# Altium schematic symbol library kmilo17pet-NSC_MiscPower.SchLib: 1552 symbols (part 36 of 43)
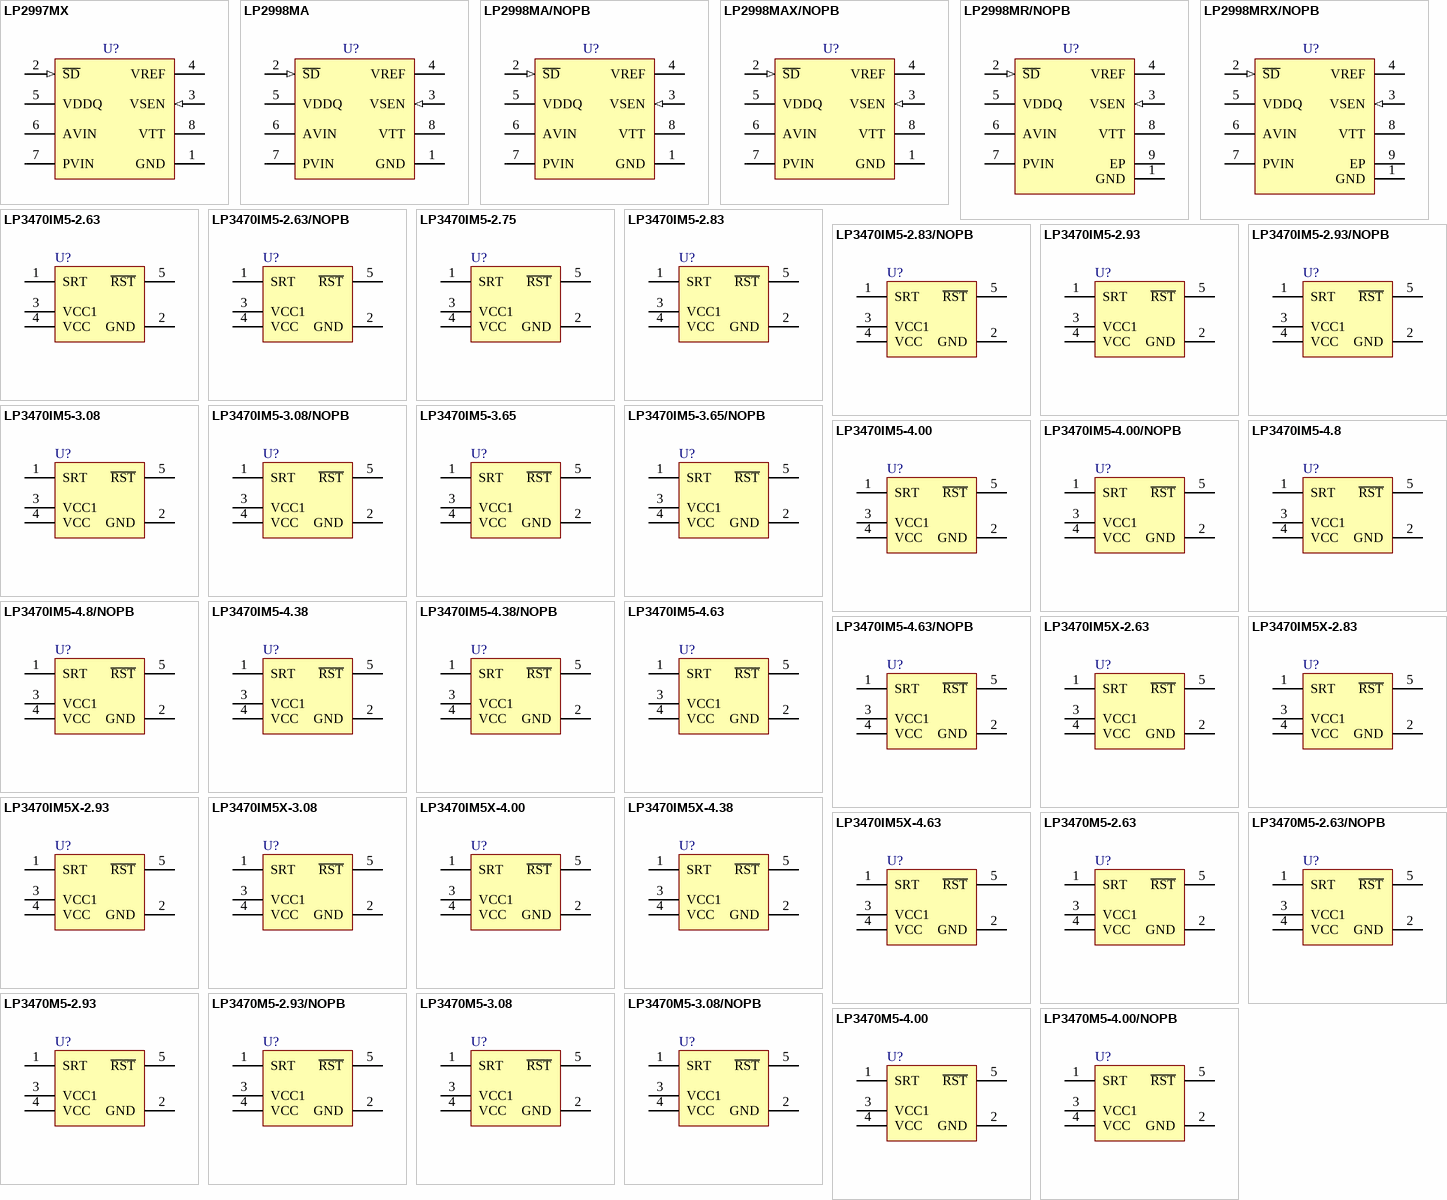
[diagram p92: symbols LP2997MX to LP3470M5-4.00/NOPB]

## LP3470IM5X-4.38
designator U?
Tiny Power On Reset Circuit, 5-pin SOT-23; PartNumber: LP3470IM5X-4.38; Manufacturer: National Semiconductor; PackageTopMarking: D30C*XTT; PowerWise: N; CompType: MiscPower; High-Reliability: Y; DatasheetVersion: Sep-2009; PackageVersion: revD, Aug-2008; PackageReference: MF05A; PackageDescription: Molded SOT-23, .115 x .063 x .040 in Body, 5 Lead, .0375 in Pitch; RoHS: N; PinCount: 5; ComponentLink1Description: Manufacturer URL; ComponentLink1URL: http://www.national.com/; ComponentLink2Description: LP3470 Datasheet; ComponentLink2URL: http://www.national.com/ds/LP/LP3470.pdf; ComponentLink3Description: LP3470 Web Page; ComponentLink3URL: http://www.national.com/pf/LP/LP3470.html; ComponentLink4Description: MF05A Package Page; ComponentLink4URL: http://www.national.com/packaging/folders/mf05a.html
footprint MF05A_N (SOT23, 5-Leads, Body 2.9x1.6mm, Pitch 0.95mm, Lead Span 2.8mm, IPC Medium Density)
footprint MF05A_L (SOT23, 5-Leads, Body 2.9x1.6mm, Pitch 0.95mm, Lead Span 2.8mm, IPC High Density)
footprint MF05A_M (SOT23, 5-Leads, Body 2.9x1.6mm, Pitch 0.95mm, Lead Span 2.8mm, IPC Low Density)
pins: 1 SRT, 2 GND (power), 3 VCC1 (power), 4 VCC (power), 5 ~{RST} (oc)

## LP3470IM5X-4.63
designator U?
Tiny Power On Reset Circuit, 5-pin SOT-23; PartNumber: LP3470IM5X-4.63; Manufacturer: National Semiconductor; PackageTopMarking: D31C*XTT; PowerWise: N; CompType: MiscPower; High-Reliability: Y; DatasheetVersion: Sep-2009; PackageVersion: revD, Aug-2008; PackageReference: MF05A; PackageDescription: Molded SOT-23, .115 x .063 x .040 in Body, 5 Lead, .0375 in Pitch; RoHS: N; PinCount: 5; ComponentLink1Description: Manufacturer URL; ComponentLink1URL: http://www.national.com/; ComponentLink2Description: LP3470 Datasheet; ComponentLink2URL: http://www.national.com/ds/LP/LP3470.pdf; ComponentLink3Description: LP3470 Web Page; ComponentLink3URL: http://www.national.com/pf/LP/LP3470.html; ComponentLink4Description: MF05A Package Page; ComponentLink4URL: http://www.national.com/packaging/folders/mf05a.html
footprint MF05A_N (SOT23, 5-Leads, Body 2.9x1.6mm, Pitch 0.95mm, Lead Span 2.8mm, IPC Medium Density)
footprint MF05A_L (SOT23, 5-Leads, Body 2.9x1.6mm, Pitch 0.95mm, Lead Span 2.8mm, IPC High Density)
footprint MF05A_M (SOT23, 5-Leads, Body 2.9x1.6mm, Pitch 0.95mm, Lead Span 2.8mm, IPC Low Density)
pins: 1 SRT, 2 GND (power), 3 VCC1 (power), 4 VCC (power), 5 ~{RST} (oc)

## LP3470M5-2.63
designator U?
Tiny Power On Reset Circuit, 5-pin SOT-23; PartNumber: LP3470M5-2.63; Manufacturer: National Semiconductor; PackageTopMarking: D25B*XTT; PowerWise: N; CompType: MiscPower; High-Reliability: Y; DatasheetVersion: Sep-2009; PackageVersion: revD, Aug-2008; PackageReference: MF05A; PackageDescription: Molded SOT-23, .115 x .063 x .040 in Body, 5 Lead, .0375 in Pitch; RoHS: N; PinCount: 5; ComponentLink1Description: Manufacturer URL; ComponentLink1URL: http://www.national.com/; ComponentLink2Description: LP3470 Datasheet; ComponentLink2URL: http://www.national.com/ds/LP/LP3470.pdf; ComponentLink3Description: LP3470 Web Page; ComponentLink3URL: http://www.national.com/pf/LP/LP3470.html; ComponentLink4Description: MF05A Package Page; ComponentLink4URL: http://www.national.com/packaging/folders/mf05a.html
footprint MF05A_N (SOT23, 5-Leads, Body 2.9x1.6mm, Pitch 0.95mm, Lead Span 2.8mm, IPC Medium Density)
footprint MF05A_L (SOT23, 5-Leads, Body 2.9x1.6mm, Pitch 0.95mm, Lead Span 2.8mm, IPC High Density)
footprint MF05A_M (SOT23, 5-Leads, Body 2.9x1.6mm, Pitch 0.95mm, Lead Span 2.8mm, IPC Low Density)
pins: 1 SRT, 2 GND (power), 3 VCC1 (power), 4 VCC (power), 5 ~{RST} (oc)

## LP3470M5-2.63/NOPB
designator U?
Tiny Power On Reset Circuit, 5-pin SOT-23, Pb-Free; PartNumber: LP3470M5-2.63/NOPB; Manufacturer: National Semiconductor; PackageTopMarking: D25B*XTT; PowerWise: N; CompType: MiscPower; High-Reliability: Y; DatasheetVersion: Sep-2009; PackageVersion: revD, Aug-2008; PackageReference: MF05A; PackageDescription: Molded SOT-23, .115 x .063 x .040 in Body, 5 Lead, .0375 in Pitch; RoHS: Y; PinCount: 5; ComponentLink1Description: Manufacturer URL; ComponentLink1URL: http://www.national.com/; ComponentLink2Description: LP3470 Datasheet; ComponentLink2URL: http://www.national.com/ds/LP/LP3470.pdf; ComponentLink3Description: LP3470 Web Page; ComponentLink3URL: http://www.national.com/pf/LP/LP3470.html; ComponentLink4Description: MF05A Package Page; ComponentLink4URL: http://www.national.com/packaging/folders/mf05a.html
footprint MF05A_N (SOT23, 5-Leads, Body 2.9x1.6mm, Pitch 0.95mm, Lead Span 2.8mm, IPC Medium Density)
footprint MF05A_L (SOT23, 5-Leads, Body 2.9x1.6mm, Pitch 0.95mm, Lead Span 2.8mm, IPC High Density)
footprint MF05A_M (SOT23, 5-Leads, Body 2.9x1.6mm, Pitch 0.95mm, Lead Span 2.8mm, IPC Low Density)
pins: 1 SRT, 2 GND (power), 3 VCC1 (power), 4 VCC (power), 5 ~{RST} (oc)

## LP3470M5-2.93
designator U?
Tiny Power On Reset Circuit, 5-pin SOT-23; PartNumber: LP3470M5-2.93; Manufacturer: National Semiconductor; PackageTopMarking: D26B*XTT; PowerWise: N; CompType: MiscPower; High-Reliability: Y; DatasheetVersion: Sep-2009; PackageVersion: revD, Aug-2008; PackageReference: MF05A; PackageDescription: Molded SOT-23, .115 x .063 x .040 in Body, 5 Lead, .0375 in Pitch; RoHS: N; PinCount: 5; ComponentLink1Description: Manufacturer URL; ComponentLink1URL: http://www.national.com/; ComponentLink2Description: LP3470 Datasheet; ComponentLink2URL: http://www.national.com/ds/LP/LP3470.pdf; ComponentLink3Description: LP3470 Web Page; ComponentLink3URL: http://www.national.com/pf/LP/LP3470.html; ComponentLink4Description: MF05A Package Page; ComponentLink4URL: http://www.national.com/packaging/folders/mf05a.html
footprint MF05A_N (SOT23, 5-Leads, Body 2.9x1.6mm, Pitch 0.95mm, Lead Span 2.8mm, IPC Medium Density)
footprint MF05A_L (SOT23, 5-Leads, Body 2.9x1.6mm, Pitch 0.95mm, Lead Span 2.8mm, IPC High Density)
footprint MF05A_M (SOT23, 5-Leads, Body 2.9x1.6mm, Pitch 0.95mm, Lead Span 2.8mm, IPC Low Density)
pins: 1 SRT, 2 GND (power), 3 VCC1 (power), 4 VCC (power), 5 ~{RST} (oc)

## LP3470M5-2.93/NOPB
designator U?
Tiny Power On Reset Circuit, 5-pin SOT-23, Pb-Free; PartNumber: LP3470M5-2.93/NOPB; Manufacturer: National Semiconductor; PackageTopMarking: D26B*XTT; PowerWise: N; CompType: MiscPower; High-Reliability: Y; DatasheetVersion: Sep-2009; PackageVersion: revD, Aug-2008; PackageReference: MF05A; PackageDescription: Molded SOT-23, .115 x .063 x .040 in Body, 5 Lead, .0375 in Pitch; RoHS: Y; PinCount: 5; ComponentLink1Description: Manufacturer URL; ComponentLink1URL: http://www.national.com/; ComponentLink2Description: LP3470 Datasheet; ComponentLink2URL: http://www.national.com/ds/LP/LP3470.pdf; ComponentLink3Description: LP3470 Web Page; ComponentLink3URL: http://www.national.com/pf/LP/LP3470.html; ComponentLink4Description: MF05A Package Page; ComponentLink4URL: http://www.national.com/packaging/folders/mf05a.html
footprint MF05A_N (SOT23, 5-Leads, Body 2.9x1.6mm, Pitch 0.95mm, Lead Span 2.8mm, IPC Medium Density)
footprint MF05A_L (SOT23, 5-Leads, Body 2.9x1.6mm, Pitch 0.95mm, Lead Span 2.8mm, IPC High Density)
footprint MF05A_M (SOT23, 5-Leads, Body 2.9x1.6mm, Pitch 0.95mm, Lead Span 2.8mm, IPC Low Density)
pins: 1 SRT, 2 GND (power), 3 VCC1 (power), 4 VCC (power), 5 ~{RST} (oc)

## LP3470M5-3.08
designator U?
Tiny Power On Reset Circuit, 5-pin SOT-23; PartNumber: LP3470M5-3.08; Manufacturer: National Semiconductor; PackageTopMarking: D28B*XTT; PowerWise: N; CompType: MiscPower; High-Reliability: Y; DatasheetVersion: Sep-2009; PackageVersion: revD, Aug-2008; PackageReference: MF05A; PackageDescription: Molded SOT-23, .115 x .063 x .040 in Body, 5 Lead, .0375 in Pitch; RoHS: N; PinCount: 5; ComponentLink1Description: Manufacturer URL; ComponentLink1URL: http://www.national.com/; ComponentLink2Description: LP3470 Datasheet; ComponentLink2URL: http://www.national.com/ds/LP/LP3470.pdf; ComponentLink3Description: LP3470 Web Page; ComponentLink3URL: http://www.national.com/pf/LP/LP3470.html; ComponentLink4Description: MF05A Package Page; ComponentLink4URL: http://www.national.com/packaging/folders/mf05a.html
footprint MF05A_N (SOT23, 5-Leads, Body 2.9x1.6mm, Pitch 0.95mm, Lead Span 2.8mm, IPC Medium Density)
footprint MF05A_L (SOT23, 5-Leads, Body 2.9x1.6mm, Pitch 0.95mm, Lead Span 2.8mm, IPC High Density)
footprint MF05A_M (SOT23, 5-Leads, Body 2.9x1.6mm, Pitch 0.95mm, Lead Span 2.8mm, IPC Low Density)
pins: 1 SRT, 2 GND (power), 3 VCC1 (power), 4 VCC (power), 5 ~{RST} (oc)

## LP3470M5-3.08/NOPB
designator U?
Tiny Power On Reset Circuit, 5-pin SOT-23, Pb-Free; PartNumber: LP3470M5-3.08/NOPB; Manufacturer: National Semiconductor; PackageTopMarking: D28B*XTT; PowerWise: N; CompType: MiscPower; High-Reliability: Y; DatasheetVersion: Sep-2009; PackageVersion: revD, Aug-2008; PackageReference: MF05A; PackageDescription: Molded SOT-23, .115 x .063 x .040 in Body, 5 Lead, .0375 in Pitch; RoHS: Y; PinCount: 5; ComponentLink1Description: Manufacturer URL; ComponentLink1URL: http://www.national.com/; ComponentLink2Description: LP3470 Datasheet; ComponentLink2URL: http://www.national.com/ds/LP/LP3470.pdf; ComponentLink3Description: LP3470 Web Page; ComponentLink3URL: http://www.national.com/pf/LP/LP3470.html; ComponentLink4Description: MF05A Package Page; ComponentLink4URL: http://www.national.com/packaging/folders/mf05a.html
footprint MF05A_N (SOT23, 5-Leads, Body 2.9x1.6mm, Pitch 0.95mm, Lead Span 2.8mm, IPC Medium Density)
footprint MF05A_L (SOT23, 5-Leads, Body 2.9x1.6mm, Pitch 0.95mm, Lead Span 2.8mm, IPC High Density)
footprint MF05A_M (SOT23, 5-Leads, Body 2.9x1.6mm, Pitch 0.95mm, Lead Span 2.8mm, IPC Low Density)
pins: 1 SRT, 2 GND (power), 3 VCC1 (power), 4 VCC (power), 5 ~{RST} (oc)

## LP3470M5-4.00
designator U?
Tiny Power On Reset Circuit, 5-pin SOT-23; PartNumber: LP3470M5-4.00; Manufacturer: National Semiconductor; PackageTopMarking: D29B*XTT; PowerWise: N; CompType: MiscPower; High-Reliability: Y; DatasheetVersion: Sep-2009; PackageVersion: revD, Aug-2008; PackageReference: MF05A; PackageDescription: Molded SOT-23, .115 x .063 x .040 in Body, 5 Lead, .0375 in Pitch; RoHS: N; PinCount: 5; ComponentLink1Description: Manufacturer URL; ComponentLink1URL: http://www.national.com/; ComponentLink2Description: LP3470 Datasheet; ComponentLink2URL: http://www.national.com/ds/LP/LP3470.pdf; ComponentLink3Description: LP3470 Web Page; ComponentLink3URL: http://www.national.com/pf/LP/LP3470.html; ComponentLink4Description: MF05A Package Page; ComponentLink4URL: http://www.national.com/packaging/folders/mf05a.html
footprint MF05A_N (SOT23, 5-Leads, Body 2.9x1.6mm, Pitch 0.95mm, Lead Span 2.8mm, IPC Medium Density)
footprint MF05A_L (SOT23, 5-Leads, Body 2.9x1.6mm, Pitch 0.95mm, Lead Span 2.8mm, IPC High Density)
footprint MF05A_M (SOT23, 5-Leads, Body 2.9x1.6mm, Pitch 0.95mm, Lead Span 2.8mm, IPC Low Density)
pins: 1 SRT, 2 GND (power), 3 VCC1 (power), 4 VCC (power), 5 ~{RST} (oc)

## LP3470M5-4.00/NOPB
designator U?
Tiny Power On Reset Circuit, 5-pin SOT-23, Pb-Free; PartNumber: LP3470M5-4.00/NOPB; Manufacturer: National Semiconductor; PackageTopMarking: D29B*XTT; PowerWise: N; CompType: MiscPower; High-Reliability: Y; DatasheetVersion: Sep-2009; PackageVersion: revD, Aug-2008; PackageReference: MF05A; PackageDescription: Molded SOT-23, .115 x .063 x .040 in Body, 5 Lead, .0375 in Pitch; RoHS: Y; PinCount: 5; ComponentLink1Description: Manufacturer URL; ComponentLink1URL: http://www.national.com/; ComponentLink2Description: LP3470 Datasheet; ComponentLink2URL: http://www.national.com/ds/LP/LP3470.pdf; ComponentLink3Description: LP3470 Web Page; ComponentLink3URL: http://www.national.com/pf/LP/LP3470.html; ComponentLink4Description: MF05A Package Page; ComponentLink4URL: http://www.national.com/packaging/folders/mf05a.html
footprint MF05A_N (SOT23, 5-Leads, Body 2.9x1.6mm, Pitch 0.95mm, Lead Span 2.8mm, IPC Medium Density)
footprint MF05A_L (SOT23, 5-Leads, Body 2.9x1.6mm, Pitch 0.95mm, Lead Span 2.8mm, IPC High Density)
footprint MF05A_M (SOT23, 5-Leads, Body 2.9x1.6mm, Pitch 0.95mm, Lead Span 2.8mm, IPC Low Density)
pins: 1 SRT, 2 GND (power), 3 VCC1 (power), 4 VCC (power), 5 ~{RST} (oc)

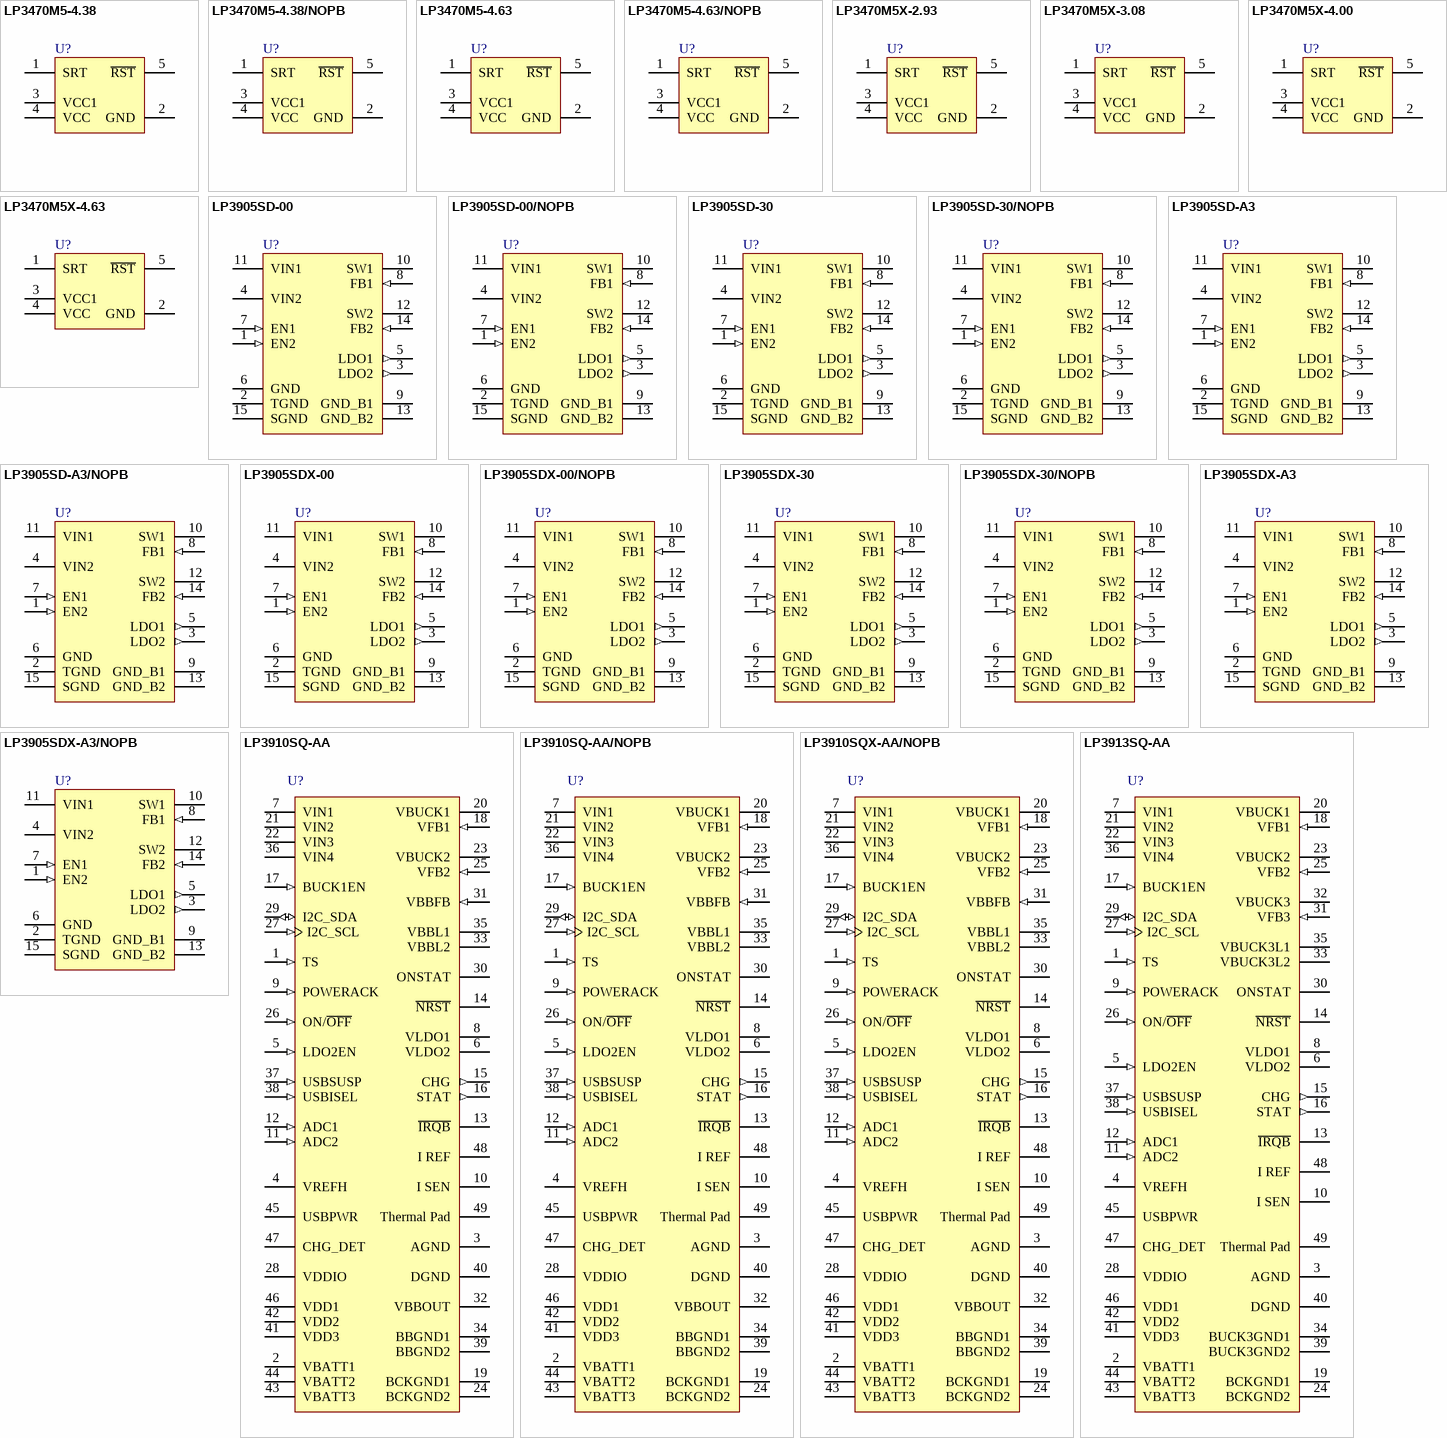
[diagram p40: symbols LP3470M5-4.38 to LP3913SQ-AA]

## LP3470M5-4.38
designator U?
Tiny Power On Reset Circuit, 5-pin SOT-23; PartNumber: LP3470M5-4.38; Manufacturer: National Semiconductor; PackageTopMarking: D30B*XTT; PowerWise: N; CompType: MiscPower; High-Reliability: Y; DatasheetVersion: Sep-2009; PackageVersion: revD, Aug-2008; PackageReference: MF05A; PackageDescription: Molded SOT-23, .115 x .063 x .040 in Body, 5 Lead, .0375 in Pitch; RoHS: N; PinCount: 5; ComponentLink1Description: Manufacturer URL; ComponentLink1URL: http://www.national.com/; ComponentLink2Description: LP3470 Datasheet; ComponentLink2URL: http://www.national.com/ds/LP/LP3470.pdf; ComponentLink3Description: LP3470 Web Page; ComponentLink3URL: http://www.national.com/pf/LP/LP3470.html; ComponentLink4Description: MF05A Package Page; ComponentLink4URL: http://www.national.com/packaging/folders/mf05a.html
footprint MF05A_N (SOT23, 5-Leads, Body 2.9x1.6mm, Pitch 0.95mm, Lead Span 2.8mm, IPC Medium Density)
footprint MF05A_L (SOT23, 5-Leads, Body 2.9x1.6mm, Pitch 0.95mm, Lead Span 2.8mm, IPC High Density)
footprint MF05A_M (SOT23, 5-Leads, Body 2.9x1.6mm, Pitch 0.95mm, Lead Span 2.8mm, IPC Low Density)
pins: 1 SRT, 2 GND (power), 3 VCC1 (power), 4 VCC (power), 5 ~{RST} (oc)

## LP3470M5-4.38/NOPB
designator U?
Tiny Power On Reset Circuit, 5-pin SOT-23, Pb-Free; PartNumber: LP3470M5-4.38/NOPB; Manufacturer: National Semiconductor; PackageTopMarking: D30B*XTT; PowerWise: N; CompType: MiscPower; High-Reliability: Y; DatasheetVersion: Sep-2009; PackageVersion: revD, Aug-2008; PackageReference: MF05A; PackageDescription: Molded SOT-23, .115 x .063 x .040 in Body, 5 Lead, .0375 in Pitch; RoHS: Y; PinCount: 5; ComponentLink1Description: Manufacturer URL; ComponentLink1URL: http://www.national.com/; ComponentLink2Description: LP3470 Datasheet; ComponentLink2URL: http://www.national.com/ds/LP/LP3470.pdf; ComponentLink3Description: LP3470 Web Page; ComponentLink3URL: http://www.national.com/pf/LP/LP3470.html; ComponentLink4Description: MF05A Package Page; ComponentLink4URL: http://www.national.com/packaging/folders/mf05a.html
footprint MF05A_N (SOT23, 5-Leads, Body 2.9x1.6mm, Pitch 0.95mm, Lead Span 2.8mm, IPC Medium Density)
footprint MF05A_L (SOT23, 5-Leads, Body 2.9x1.6mm, Pitch 0.95mm, Lead Span 2.8mm, IPC High Density)
footprint MF05A_M (SOT23, 5-Leads, Body 2.9x1.6mm, Pitch 0.95mm, Lead Span 2.8mm, IPC Low Density)
pins: 1 SRT, 2 GND (power), 3 VCC1 (power), 4 VCC (power), 5 ~{RST} (oc)

## LP3470M5-4.63
designator U?
Tiny Power On Reset Circuit, 5-pin SOT-23; PartNumber: LP3470M5-4.63; Manufacturer: National Semiconductor; PackageTopMarking: D31B*XTT; PowerWise: N; CompType: MiscPower; High-Reliability: Y; DatasheetVersion: Sep-2009; PackageVersion: revD, Aug-2008; PackageReference: MF05A; PackageDescription: Molded SOT-23, .115 x .063 x .040 in Body, 5 Lead, .0375 in Pitch; RoHS: N; PinCount: 5; ComponentLink1Description: Manufacturer URL; ComponentLink1URL: http://www.national.com/; ComponentLink2Description: LP3470 Datasheet; ComponentLink2URL: http://www.national.com/ds/LP/LP3470.pdf; ComponentLink3Description: LP3470 Web Page; ComponentLink3URL: http://www.national.com/pf/LP/LP3470.html; ComponentLink4Description: MF05A Package Page; ComponentLink4URL: http://www.national.com/packaging/folders/mf05a.html
footprint MF05A_N (SOT23, 5-Leads, Body 2.9x1.6mm, Pitch 0.95mm, Lead Span 2.8mm, IPC Medium Density)
footprint MF05A_L (SOT23, 5-Leads, Body 2.9x1.6mm, Pitch 0.95mm, Lead Span 2.8mm, IPC High Density)
footprint MF05A_M (SOT23, 5-Leads, Body 2.9x1.6mm, Pitch 0.95mm, Lead Span 2.8mm, IPC Low Density)
pins: 1 SRT, 2 GND (power), 3 VCC1 (power), 4 VCC (power), 5 ~{RST} (oc)

## LP3470M5-4.63/NOPB
designator U?
Tiny Power On Reset Circuit, 5-pin SOT-23, Pb-Free; PartNumber: LP3470M5-4.63/NOPB; Manufacturer: National Semiconductor; PackageTopMarking: D31B*XTT; PowerWise: N; CompType: MiscPower; High-Reliability: Y; DatasheetVersion: Sep-2009; PackageVersion: revD, Aug-2008; PackageReference: MF05A; PackageDescription: Molded SOT-23, .115 x .063 x .040 in Body, 5 Lead, .0375 in Pitch; RoHS: Y; PinCount: 5; ComponentLink1Description: Manufacturer URL; ComponentLink1URL: http://www.national.com/; ComponentLink2Description: LP3470 Datasheet; ComponentLink2URL: http://www.national.com/ds/LP/LP3470.pdf; ComponentLink3Description: LP3470 Web Page; ComponentLink3URL: http://www.national.com/pf/LP/LP3470.html; ComponentLink4Description: MF05A Package Page; ComponentLink4URL: http://www.national.com/packaging/folders/mf05a.html
footprint MF05A_N (SOT23, 5-Leads, Body 2.9x1.6mm, Pitch 0.95mm, Lead Span 2.8mm, IPC Medium Density)
footprint MF05A_L (SOT23, 5-Leads, Body 2.9x1.6mm, Pitch 0.95mm, Lead Span 2.8mm, IPC High Density)
footprint MF05A_M (SOT23, 5-Leads, Body 2.9x1.6mm, Pitch 0.95mm, Lead Span 2.8mm, IPC Low Density)
pins: 1 SRT, 2 GND (power), 3 VCC1 (power), 4 VCC (power), 5 ~{RST} (oc)

## LP3470M5X-2.93
designator U?
Tiny Power On Reset Circuit, 5-pin SOT-23; PartNumber: LP3470M5X-2.93; Manufacturer: National Semiconductor; PackageTopMarking: D26B*XTT; PowerWise: N; CompType: MiscPower; High-Reliability: Y; DatasheetVersion: Sep-2009; PackageVersion: revD, Aug-2008; PackageReference: MF05A; PackageDescription: Molded SOT-23, .115 x .063 x .040 in Body, 5 Lead, .0375 in Pitch; RoHS: N; PinCount: 5; ComponentLink1Description: Manufacturer URL; ComponentLink1URL: http://www.national.com/; ComponentLink2Description: LP3470 Datasheet; ComponentLink2URL: http://www.national.com/ds/LP/LP3470.pdf; ComponentLink3Description: LP3470 Web Page; ComponentLink3URL: http://www.national.com/pf/LP/LP3470.html; ComponentLink4Description: MF05A Package Page; ComponentLink4URL: http://www.national.com/packaging/folders/mf05a.html
footprint MF05A_N (SOT23, 5-Leads, Body 2.9x1.6mm, Pitch 0.95mm, Lead Span 2.8mm, IPC Medium Density)
footprint MF05A_L (SOT23, 5-Leads, Body 2.9x1.6mm, Pitch 0.95mm, Lead Span 2.8mm, IPC High Density)
footprint MF05A_M (SOT23, 5-Leads, Body 2.9x1.6mm, Pitch 0.95mm, Lead Span 2.8mm, IPC Low Density)
pins: 1 SRT, 2 GND (power), 3 VCC1 (power), 4 VCC (power), 5 ~{RST} (oc)

## LP3470M5X-3.08
designator U?
Tiny Power On Reset Circuit, 5-pin SOT-23; PartNumber: LP3470M5X-3.08; Manufacturer: National Semiconductor; PackageTopMarking: D28B*XTT; PowerWise: N; CompType: MiscPower; High-Reliability: Y; DatasheetVersion: Sep-2009; PackageVersion: revD, Aug-2008; PackageReference: MF05A; PackageDescription: Molded SOT-23, .115 x .063 x .040 in Body, 5 Lead, .0375 in Pitch; RoHS: N; PinCount: 5; ComponentLink1Description: Manufacturer URL; ComponentLink1URL: http://www.national.com/; ComponentLink2Description: LP3470 Datasheet; ComponentLink2URL: http://www.national.com/ds/LP/LP3470.pdf; ComponentLink3Description: LP3470 Web Page; ComponentLink3URL: http://www.national.com/pf/LP/LP3470.html; ComponentLink4Description: MF05A Package Page; ComponentLink4URL: http://www.national.com/packaging/folders/mf05a.html
footprint MF05A_N (SOT23, 5-Leads, Body 2.9x1.6mm, Pitch 0.95mm, Lead Span 2.8mm, IPC Medium Density)
footprint MF05A_L (SOT23, 5-Leads, Body 2.9x1.6mm, Pitch 0.95mm, Lead Span 2.8mm, IPC High Density)
footprint MF05A_M (SOT23, 5-Leads, Body 2.9x1.6mm, Pitch 0.95mm, Lead Span 2.8mm, IPC Low Density)
pins: 1 SRT, 2 GND (power), 3 VCC1 (power), 4 VCC (power), 5 ~{RST} (oc)

## LP3470M5X-4.00
designator U?
Tiny Power On Reset Circuit, 5-pin SOT-23; PartNumber: LP3470M5X-4.00; Manufacturer: National Semiconductor; PackageTopMarking: D29B*XTT; PowerWise: N; CompType: MiscPower; High-Reliability: Y; DatasheetVersion: Sep-2009; PackageVersion: revD, Aug-2008; PackageReference: MF05A; PackageDescription: Molded SOT-23, .115 x .063 x .040 in Body, 5 Lead, .0375 in Pitch; RoHS: N; PinCount: 5; ComponentLink1Description: Manufacturer URL; ComponentLink1URL: http://www.national.com/; ComponentLink2Description: LP3470 Datasheet; ComponentLink2URL: http://www.national.com/ds/LP/LP3470.pdf; ComponentLink3Description: LP3470 Web Page; ComponentLink3URL: http://www.national.com/pf/LP/LP3470.html; ComponentLink4Description: MF05A Package Page; ComponentLink4URL: http://www.national.com/packaging/folders/mf05a.html
footprint MF05A_N (SOT23, 5-Leads, Body 2.9x1.6mm, Pitch 0.95mm, Lead Span 2.8mm, IPC Medium Density)
footprint MF05A_L (SOT23, 5-Leads, Body 2.9x1.6mm, Pitch 0.95mm, Lead Span 2.8mm, IPC High Density)
footprint MF05A_M (SOT23, 5-Leads, Body 2.9x1.6mm, Pitch 0.95mm, Lead Span 2.8mm, IPC Low Density)
pins: 1 SRT, 2 GND (power), 3 VCC1 (power), 4 VCC (power), 5 ~{RST} (oc)

## LP3470M5X-4.63
designator U?
Tiny Power On Reset Circuit, 5-pin SOT-23; PartNumber: LP3470M5X-4.63; Manufacturer: National Semiconductor; PackageTopMarking: D31B*XTT; PowerWise: N; CompType: MiscPower; High-Reliability: Y; DatasheetVersion: Sep-2009; PackageVersion: revD, Aug-2008; PackageReference: MF05A; PackageDescription: Molded SOT-23, .115 x .063 x .040 in Body, 5 Lead, .0375 in Pitch; RoHS: N; PinCount: 5; ComponentLink1Description: Manufacturer URL; ComponentLink1URL: http://www.national.com/; ComponentLink2Description: LP3470 Datasheet; ComponentLink2URL: http://www.national.com/ds/LP/LP3470.pdf; ComponentLink3Description: LP3470 Web Page; ComponentLink3URL: http://www.national.com/pf/LP/LP3470.html; ComponentLink4Description: MF05A Package Page; ComponentLink4URL: http://www.national.com/packaging/folders/mf05a.html
footprint MF05A_N (SOT23, 5-Leads, Body 2.9x1.6mm, Pitch 0.95mm, Lead Span 2.8mm, IPC Medium Density)
footprint MF05A_L (SOT23, 5-Leads, Body 2.9x1.6mm, Pitch 0.95mm, Lead Span 2.8mm, IPC High Density)
footprint MF05A_M (SOT23, 5-Leads, Body 2.9x1.6mm, Pitch 0.95mm, Lead Span 2.8mm, IPC Low Density)
pins: 1 SRT, 2 GND (power), 3 VCC1 (power), 4 VCC (power), 5 ~{RST} (oc)

## LP3905SD-00
designator U?
Power Management Unit for Low Power Handheld Applications, 14-pin LLP; PartNumber: LP3905SD-00; Manufacturer: National Semiconductor; PackageTopMarking: NS*UZXYTT*3905-00; PowerWise: N; CompType: MiscPower; High-Reliability: Y; DatasheetVersion: Aug-2006; PackageVersion: revA, Jul-2004; PackageReference: SDA14B; PackageDescription: LLP, Plastic, Dual, 4 x 4 x 0.8mm Body, 14 Lead, 0.5mm Pitch, No Pullback; RoHS: N; PinCount: 14; ComponentLink1Description: Manufacturer URL; ComponentLink1URL: http://www.national.com/; ComponentLink2Description: LP3905 Datasheet; ComponentLink2URL: http://www.national.com/ds/LP/LP3905.pdf; ComponentLink3Description: LP3905 Web Page; ComponentLink3URL: http://www.national.com/pf/LP/LP3905.html; ComponentLink4Description: SDA14B Package Page; ComponentLink4URL: http://www.national.com/packaging/folders/sda14b.html
footprint SDA14B (SON, 14-Leads, Body 4x4mm, Pitch 0.5mm, NSC Recommended)
pins: 1 EN2 (in), 2 TGND (power), 3 LDO2 (out), 4 VIN2 (power), 5 LDO1 (out), 6 GND (power), 7 EN1 (in), 8 FB1 (in), 9 GND_B1 (power), 10 SW1 (power), 11 VIN1 (power), 12 SW2 (power), 13 GND_B2 (power), 14 FB2 (in), 15 SGND (power)

## LP3905SD-00/NOPB
designator U?
Power Management Unit for Low Power Handheld Applications, 14-pin LLP, Pb-Free; PartNumber: LP3905SD-00/NOPB; Manufacturer: National Semiconductor; PackageTopMarking: NS*UZXYTT*3905-00; PowerWise: N; CompType: MiscPower; High-Reliability: Y; DatasheetVersion: Aug-2006; PackageVersion: revA, Jul-2004; PackageReference: SDA14B; PackageDescription: LLP, Plastic, Dual, 4 x 4 x 0.8mm Body, 14 Lead, 0.5mm Pitch, No Pullback; RoHS: Y; PinCount: 14; ComponentLink1Description: Manufacturer URL; ComponentLink1URL: http://www.national.com/; ComponentLink2Description: LP3905 Datasheet; ComponentLink2URL: http://www.national.com/ds/LP/LP3905.pdf; ComponentLink3Description: LP3905 Web Page; ComponentLink3URL: http://www.national.com/pf/LP/LP3905.html; ComponentLink4Description: SDA14B Package Page; ComponentLink4URL: http://www.national.com/packaging/folders/sda14b.html
footprint SDA14B (SON, 14-Leads, Body 4x4mm, Pitch 0.5mm, NSC Recommended)
pins: 1 EN2 (in), 2 TGND (power), 3 LDO2 (out), 4 VIN2 (power), 5 LDO1 (out), 6 GND (power), 7 EN1 (in), 8 FB1 (in), 9 GND_B1 (power), 10 SW1 (power), 11 VIN1 (power), 12 SW2 (power), 13 GND_B2 (power), 14 FB2 (in), 15 SGND (power)

## LP3905SD-30
designator U?
Power Management Unit for Low Power Handheld Applications, 14-pin LLP; PartNumber: LP3905SD-30; Manufacturer: National Semiconductor; PackageTopMarking: NS*UZXYTT*3905-30; PowerWise: N; CompType: MiscPower; High-Reliability: Y; DatasheetVersion: Aug-2006; PackageVersion: revA, Jul-2004; PackageReference: SDA14B; PackageDescription: LLP, Plastic, Dual, 4 x 4 x 0.8mm Body, 14 Lead, 0.5mm Pitch, No Pullback; RoHS: N; PinCount: 14; ComponentLink1Description: Manufacturer URL; ComponentLink1URL: http://www.national.com/; ComponentLink2Description: LP3905 Datasheet; ComponentLink2URL: http://www.national.com/ds/LP/LP3905.pdf; ComponentLink3Description: LP3905 Web Page; ComponentLink3URL: http://www.national.com/pf/LP/LP3905.html; ComponentLink4Description: SDA14B Package Page; ComponentLink4URL: http://www.national.com/packaging/folders/sda14b.html
footprint SDA14B (SON, 14-Leads, Body 4x4mm, Pitch 0.5mm, NSC Recommended)
pins: 1 EN2 (in), 2 TGND (power), 3 LDO2 (out), 4 VIN2 (power), 5 LDO1 (out), 6 GND (power), 7 EN1 (in), 8 FB1 (in), 9 GND_B1 (power), 10 SW1 (power), 11 VIN1 (power), 12 SW2 (power), 13 GND_B2 (power), 14 FB2 (in), 15 SGND (power)

## LP3905SD-30/NOPB
designator U?
Power Management Unit for Low Power Handheld Applications, 14-pin LLP, Pb-Free; PartNumber: LP3905SD-30/NOPB; Manufacturer: National Semiconductor; PackageTopMarking: NS*UZXYTT*3905-30; PowerWise: N; CompType: MiscPower; High-Reliability: Y; DatasheetVersion: Aug-2006; PackageVersion: revA, Jul-2004; PackageReference: SDA14B; PackageDescription: LLP, Plastic, Dual, 4 x 4 x 0.8mm Body, 14 Lead, 0.5mm Pitch, No Pullback; RoHS: Y; PinCount: 14; ComponentLink1Description: Manufacturer URL; ComponentLink1URL: http://www.national.com/; ComponentLink2Description: LP3905 Datasheet; ComponentLink2URL: http://www.national.com/ds/LP/LP3905.pdf; ComponentLink3Description: LP3905 Web Page; ComponentLink3URL: http://www.national.com/pf/LP/LP3905.html; ComponentLink4Description: SDA14B Package Page; ComponentLink4URL: http://www.national.com/packaging/folders/sda14b.html
footprint SDA14B (SON, 14-Leads, Body 4x4mm, Pitch 0.5mm, NSC Recommended)
pins: 1 EN2 (in), 2 TGND (power), 3 LDO2 (out), 4 VIN2 (power), 5 LDO1 (out), 6 GND (power), 7 EN1 (in), 8 FB1 (in), 9 GND_B1 (power), 10 SW1 (power), 11 VIN1 (power), 12 SW2 (power), 13 GND_B2 (power), 14 FB2 (in), 15 SGND (power)

## LP3905SD-A3
designator U?
Power Management Unit for Low Power Handheld Applications, 14-pin LLP; PartNumber: LP3905SD-A3; Manufacturer: National Semiconductor; PackageTopMarking: NS*UZXYTT*3905-A3; PowerWise: N; CompType: MiscPower; High-Reliability: Y; DatasheetVersion: Aug-2006; PackageVersion: revA, Jul-2004; PackageReference: SDA14B; PackageDescription: LLP, Plastic, Dual, 4 x 4 x 0.8mm Body, 14 Lead, 0.5mm Pitch, No Pullback; RoHS: N; PinCount: 14; ComponentLink1Description: Manufacturer URL; ComponentLink1URL: http://www.national.com/; ComponentLink2Description: LP3905 Datasheet; ComponentLink2URL: http://www.national.com/ds/LP/LP3905.pdf; ComponentLink3Description: LP3905 Web Page; ComponentLink3URL: http://www.national.com/pf/LP/LP3905.html; ComponentLink4Description: SDA14B Package Page; ComponentLink4URL: http://www.national.com/packaging/folders/sda14b.html
footprint SDA14B (SON, 14-Leads, Body 4x4mm, Pitch 0.5mm, NSC Recommended)
pins: 1 EN2 (in), 2 TGND (power), 3 LDO2 (out), 4 VIN2 (power), 5 LDO1 (out), 6 GND (power), 7 EN1 (in), 8 FB1 (in), 9 GND_B1 (power), 10 SW1 (power), 11 VIN1 (power), 12 SW2 (power), 13 GND_B2 (power), 14 FB2 (in), 15 SGND (power)

## LP3905SD-A3/NOPB
designator U?
Power Management Unit for Low Power Handheld Applications, 14-pin LLP, Pb-Free; PartNumber: LP3905SD-A3/NOPB; Manufacturer: National Semiconductor; PackageTopMarking: NS*UZXYTT*3905-A3; PowerWise: N; CompType: MiscPower; High-Reliability: Y; DatasheetVersion: Aug-2006; PackageVersion: revA, Jul-2004; PackageReference: SDA14B; PackageDescription: LLP, Plastic, Dual, 4 x 4 x 0.8mm Body, 14 Lead, 0.5mm Pitch, No Pullback; RoHS: Y; PinCount: 14; ComponentLink1Description: Manufacturer URL; ComponentLink1URL: http://www.national.com/; ComponentLink2Description: LP3905 Datasheet; ComponentLink2URL: http://www.national.com/ds/LP/LP3905.pdf; ComponentLink3Description: LP3905 Web Page; ComponentLink3URL: http://www.national.com/pf/LP/LP3905.html; ComponentLink4Description: SDA14B Package Page; ComponentLink4URL: http://www.national.com/packaging/folders/sda14b.html
footprint SDA14B (SON, 14-Leads, Body 4x4mm, Pitch 0.5mm, NSC Recommended)
pins: 1 EN2 (in), 2 TGND (power), 3 LDO2 (out), 4 VIN2 (power), 5 LDO1 (out), 6 GND (power), 7 EN1 (in), 8 FB1 (in), 9 GND_B1 (power), 10 SW1 (power), 11 VIN1 (power), 12 SW2 (power), 13 GND_B2 (power), 14 FB2 (in), 15 SGND (power)

## LP3905SDX-00
designator U?
Power Management Unit for Low Power Handheld Applications, 14-pin LLP; PartNumber: LP3905SDX-00; Manufacturer: National Semiconductor; PackageTopMarking: NS*UZXYTT*3905-00; PowerWise: N; CompType: MiscPower; High-Reliability: Y; DatasheetVersion: Aug-2006; PackageVersion: revA, Jul-2004; PackageReference: SDA14B; PackageDescription: LLP, Plastic, Dual, 4 x 4 x 0.8mm Body, 14 Lead, 0.5mm Pitch, No Pullback; RoHS: N; PinCount: 14; ComponentLink1Description: Manufacturer URL; ComponentLink1URL: http://www.national.com/; ComponentLink2Description: LP3905 Datasheet; ComponentLink2URL: http://www.national.com/ds/LP/LP3905.pdf; ComponentLink3Description: LP3905 Web Page; ComponentLink3URL: http://www.national.com/pf/LP/LP3905.html; ComponentLink4Description: SDA14B Package Page; ComponentLink4URL: http://www.national.com/packaging/folders/sda14b.html
footprint SDA14B (SON, 14-Leads, Body 4x4mm, Pitch 0.5mm, NSC Recommended)
pins: 1 EN2 (in), 2 TGND (power), 3 LDO2 (out), 4 VIN2 (power), 5 LDO1 (out), 6 GND (power), 7 EN1 (in), 8 FB1 (in), 9 GND_B1 (power), 10 SW1 (power), 11 VIN1 (power), 12 SW2 (power), 13 GND_B2 (power), 14 FB2 (in), 15 SGND (power)

## LP3905SDX-00/NOPB
designator U?
Power Management Unit for Low Power Handheld Applications, 14-pin LLP, Pb-Free; PartNumber: LP3905SDX-00/NOPB; Manufacturer: National Semiconductor; PackageTopMarking: NS*UZXYTT*3905-00; PowerWise: N; CompType: MiscPower; High-Reliability: Y; DatasheetVersion: Aug-2006; PackageVersion: revA, Jul-2004; PackageReference: SDA14B; PackageDescription: LLP, Plastic, Dual, 4 x 4 x 0.8mm Body, 14 Lead, 0.5mm Pitch, No Pullback; RoHS: Y; PinCount: 14; ComponentLink1Description: Manufacturer URL; ComponentLink1URL: http://www.national.com/; ComponentLink2Description: LP3905 Datasheet; ComponentLink2URL: http://www.national.com/ds/LP/LP3905.pdf; ComponentLink3Description: LP3905 Web Page; ComponentLink3URL: http://www.national.com/pf/LP/LP3905.html; ComponentLink4Description: SDA14B Package Page; ComponentLink4URL: http://www.national.com/packaging/folders/sda14b.html
footprint SDA14B (SON, 14-Leads, Body 4x4mm, Pitch 0.5mm, NSC Recommended)
pins: 1 EN2 (in), 2 TGND (power), 3 LDO2 (out), 4 VIN2 (power), 5 LDO1 (out), 6 GND (power), 7 EN1 (in), 8 FB1 (in), 9 GND_B1 (power), 10 SW1 (power), 11 VIN1 (power), 12 SW2 (power), 13 GND_B2 (power), 14 FB2 (in), 15 SGND (power)

## LP3905SDX-30
designator U?
Power Management Unit for Low Power Handheld Applications, 14-pin LLP; PartNumber: LP3905SDX-30; Manufacturer: National Semiconductor; PackageTopMarking: NS*UZXYTT*3905-30; PowerWise: N; CompType: MiscPower; High-Reliability: Y; DatasheetVersion: Aug-2006; PackageVersion: revA, Jul-2004; PackageReference: SDA14B; PackageDescription: LLP, Plastic, Dual, 4 x 4 x 0.8mm Body, 14 Lead, 0.5mm Pitch, No Pullback; RoHS: N; PinCount: 14; ComponentLink1Description: Manufacturer URL; ComponentLink1URL: http://www.national.com/; ComponentLink2Description: LP3905 Datasheet; ComponentLink2URL: http://www.national.com/ds/LP/LP3905.pdf; ComponentLink3Description: LP3905 Web Page; ComponentLink3URL: http://www.national.com/pf/LP/LP3905.html; ComponentLink4Description: SDA14B Package Page; ComponentLink4URL: http://www.national.com/packaging/folders/sda14b.html
footprint SDA14B (SON, 14-Leads, Body 4x4mm, Pitch 0.5mm, NSC Recommended)
pins: 1 EN2 (in), 2 TGND (power), 3 LDO2 (out), 4 VIN2 (power), 5 LDO1 (out), 6 GND (power), 7 EN1 (in), 8 FB1 (in), 9 GND_B1 (power), 10 SW1 (power), 11 VIN1 (power), 12 SW2 (power), 13 GND_B2 (power), 14 FB2 (in), 15 SGND (power)

## LP3905SDX-30/NOPB
designator U?
Power Management Unit for Low Power Handheld Applications, 14-pin LLP, Pb-Free; PartNumber: LP3905SDX-30/NOPB; Manufacturer: National Semiconductor; PackageTopMarking: NS*UZXYTT*3905-30; PowerWise: N; CompType: MiscPower; High-Reliability: Y; DatasheetVersion: Aug-2006; PackageVersion: revA, Jul-2004; PackageReference: SDA14B; PackageDescription: LLP, Plastic, Dual, 4 x 4 x 0.8mm Body, 14 Lead, 0.5mm Pitch, No Pullback; RoHS: Y; PinCount: 14; ComponentLink1Description: Manufacturer URL; ComponentLink1URL: http://www.national.com/; ComponentLink2Description: LP3905 Datasheet; ComponentLink2URL: http://www.national.com/ds/LP/LP3905.pdf; ComponentLink3Description: LP3905 Web Page; ComponentLink3URL: http://www.national.com/pf/LP/LP3905.html; ComponentLink4Description: SDA14B Package Page; ComponentLink4URL: http://www.national.com/packaging/folders/sda14b.html
footprint SDA14B (SON, 14-Leads, Body 4x4mm, Pitch 0.5mm, NSC Recommended)
pins: 1 EN2 (in), 2 TGND (power), 3 LDO2 (out), 4 VIN2 (power), 5 LDO1 (out), 6 GND (power), 7 EN1 (in), 8 FB1 (in), 9 GND_B1 (power), 10 SW1 (power), 11 VIN1 (power), 12 SW2 (power), 13 GND_B2 (power), 14 FB2 (in), 15 SGND (power)

## LP3905SDX-A3
designator U?
Power Management Unit for Low Power Handheld Applications, 14-pin LLP; PartNumber: LP3905SDX-A3; Manufacturer: National Semiconductor; PackageTopMarking: NS*UZXYTT*3905-A3; PowerWise: N; CompType: MiscPower; High-Reliability: Y; DatasheetVersion: Aug-2006; PackageVersion: revA, Jul-2004; PackageReference: SDA14B; PackageDescription: LLP, Plastic, Dual, 4 x 4 x 0.8mm Body, 14 Lead, 0.5mm Pitch, No Pullback; RoHS: N; PinCount: 14; ComponentLink1Description: Manufacturer URL; ComponentLink1URL: http://www.national.com/; ComponentLink2Description: LP3905 Datasheet; ComponentLink2URL: http://www.national.com/ds/LP/LP3905.pdf; ComponentLink3Description: LP3905 Web Page; ComponentLink3URL: http://www.national.com/pf/LP/LP3905.html; ComponentLink4Description: SDA14B Package Page; ComponentLink4URL: http://www.national.com/packaging/folders/sda14b.html
footprint SDA14B (SON, 14-Leads, Body 4x4mm, Pitch 0.5mm, NSC Recommended)
pins: 1 EN2 (in), 2 TGND (power), 3 LDO2 (out), 4 VIN2 (power), 5 LDO1 (out), 6 GND (power), 7 EN1 (in), 8 FB1 (in), 9 GND_B1 (power), 10 SW1 (power), 11 VIN1 (power), 12 SW2 (power), 13 GND_B2 (power), 14 FB2 (in), 15 SGND (power)

## LP3905SDX-A3/NOPB
designator U?
Power Management Unit for Low Power Handheld Applications, 14-pin LLP, Pb-Free; PartNumber: LP3905SDX-A3/NOPB; Manufacturer: National Semiconductor; PackageTopMarking: NS*UZXYTT*3905-A3; PowerWise: N; CompType: MiscPower; High-Reliability: Y; DatasheetVersion: Aug-2006; PackageVersion: revA, Jul-2004; PackageReference: SDA14B; PackageDescription: LLP, Plastic, Dual, 4 x 4 x 0.8mm Body, 14 Lead, 0.5mm Pitch, No Pullback; RoHS: Y; PinCount: 14; ComponentLink1Description: Manufacturer URL; ComponentLink1URL: http://www.national.com/; ComponentLink2Description: LP3905 Datasheet; ComponentLink2URL: http://www.national.com/ds/LP/LP3905.pdf; ComponentLink3Description: LP3905 Web Page; ComponentLink3URL: http://www.national.com/pf/LP/LP3905.html; ComponentLink4Description: SDA14B Package Page; ComponentLink4URL: http://www.national.com/packaging/folders/sda14b.html
footprint SDA14B (SON, 14-Leads, Body 4x4mm, Pitch 0.5mm, NSC Recommended)
pins: 1 EN2 (in), 2 TGND (power), 3 LDO2 (out), 4 VIN2 (power), 5 LDO1 (out), 6 GND (power), 7 EN1 (in), 8 FB1 (in), 9 GND_B1 (power), 10 SW1 (power), 11 VIN1 (power), 12 SW2 (power), 13 GND_B2 (power), 14 FB2 (in), 15 SGND (power)

## LP3910SQ-AA
designator U?
Power Management IC for Hard Drive Based Portable Media Players, 48-pin LLP; PartNumber: LP3910SQ-AA; Manufacturer: National Semiconductor; PackageTopMarking: NS*UZXYTT*L3910-AA; PowerWise: Y; CompType: MiscPower; DatasheetVersion: Sep-2008; PackageVersion: revA, May-2004; PackageReference: SQF48A; PackageDescription: LLP, Quad, 6 x 6 x 0.8mm Body, 48 Lead, 0.4mm Pitch, 4.6 x 4.6mm Exposed Pad; RoHS: Y; PinCount: 48; High-Reliability: Y; ComponentLink1Description: Manufacturer URL; ComponentLink1URL: http://www.national.com/; ComponentLink2Description: LP3910 Datasheet; ComponentLink2URL: http://www.national.com/ds/LP/LP3910.pdf; ComponentLink3Description: LP3910 Web Page; ComponentLink3URL: http://www.national.com/pf/LP/LP3910.html; ComponentLink4Description: SQF48A Package Page; ComponentLink4URL: http://www.national.com/packaging/folders/sqf48a.html
footprint SQF48A (QFN, 49-Leads, Body 6x6mm, Pitch 0.4mm, Thermal Pad 4.6x4.6mm, NSC Recommended)
pins: 1 TS (in), 2 VBATT1 (power), 3 AGND (power), 4 VREFH, 5 LDO2EN (in), 6 VLDO2 (power), 7 VIN1 (power), 8 VLDO1 (power), 9 POWERACK (in), 10 I SEN, 11 ADC2 (in), 12 ADC1 (in), 13 ~{IRQB} (oc), 14 ~{NRST} (oc), 15 CHG (out), 16 STAT (out), 17 BUCK1EN (in), 18 VFB1 (in), 19 BCKGND1 (power), 20 VBUCK1 (power), 21 VIN2 (power), 22 VIN3 (power), 23 VBUCK2 (power), 24 BCKGND2 (power), 25 VFB2 (in), 26 ON/~{OFF} (in), 27 I2C_SCL (in), 28 VDDIO (power), 29 I2C_SDA (io), 30 ONSTAT (oc), 31 VBBFB (in), 32 VBBOUT (power), 33 VBBL2, 34 BBGND1 (power), 35 VBBL1, 36 VIN4 (power), 37 USBSUSP (in), 38 USBISEL (in), 39 BBGND2 (power), 40 DGND (power), 41 VDD3 (power), 42 VDD2 (power), 43 VBATT3 (power), 44 VBATT2 (power), 45 USBPWR (power), 46 VDD1 (power), 47 CHG_DET (power), 48 I REF, 49 Thermal Pad (power)

## LP3910SQ-AA/NOPB
designator U?
Power Management IC for Hard Drive Based Portable Media Players, 48-pin LLP, Pb-Free; PartNumber: LP3910SQ-AA/NOPB; Manufacturer: National Semiconductor; PackageTopMarking: NS*UZXYTTE#*L3910-AA; PowerWise: Y; CompType: MiscPower; DatasheetVersion: Sep-2008; PackageVersion: revA, May-2004; PackageReference: SQF48A; PackageDescription: LLP, Quad, 6 x 6 x 0.8mm Body, 48 Lead, 0.4mm Pitch, 4.6 x 4.6mm Exposed Pad; RoHS: Y; PinCount: 48; High-Reliability: Y; ComponentLink1Description: Manufacturer URL; ComponentLink1URL: http://www.national.com/; ComponentLink2Description: LP3910 Datasheet; ComponentLink2URL: http://www.national.com/ds/LP/LP3910.pdf; ComponentLink3Description: LP3910 Web Page; ComponentLink3URL: http://www.national.com/pf/LP/LP3910.html; ComponentLink4Description: SQF48A Package Page; ComponentLink4URL: http://www.national.com/packaging/folders/sqf48a.html
footprint SQF48A (QFN, 49-Leads, Body 6x6mm, Pitch 0.4mm, Thermal Pad 4.6x4.6mm, NSC Recommended)
pins: 1 TS (in), 2 VBATT1 (power), 3 AGND (power), 4 VREFH, 5 LDO2EN (in), 6 VLDO2 (power), 7 VIN1 (power), 8 VLDO1 (power), 9 POWERACK (in), 10 I SEN, 11 ADC2 (in), 12 ADC1 (in), 13 ~{IRQB} (oc), 14 ~{NRST} (oc), 15 CHG (out), 16 STAT (out), 17 BUCK1EN (in), 18 VFB1 (in), 19 BCKGND1 (power), 20 VBUCK1 (power), 21 VIN2 (power), 22 VIN3 (power), 23 VBUCK2 (power), 24 BCKGND2 (power), 25 VFB2 (in), 26 ON/~{OFF} (in), 27 I2C_SCL (in), 28 VDDIO (power), 29 I2C_SDA (io), 30 ONSTAT (oc), 31 VBBFB (in), 32 VBBOUT (power), 33 VBBL2, 34 BBGND1 (power), 35 VBBL1, 36 VIN4 (power), 37 USBSUSP (in), 38 USBISEL (in), 39 BBGND2 (power), 40 DGND (power), 41 VDD3 (power), 42 VDD2 (power), 43 VBATT3 (power), 44 VBATT2 (power), 45 USBPWR (power), 46 VDD1 (power), 47 CHG_DET (power), 48 I REF, 49 Thermal Pad (power)

## LP3910SQX-AA/NOPB
designator U?
Power Management IC for Hard Drive Based Portable Media Players, 48-pin LLP, Pb-Free; PartNumber: LP3910SQX-AA/NOPB; Manufacturer: National Semiconductor; PackageTopMarking: NS*UZXYTTE#*L3910-AA; PowerWise: Y; CompType: MiscPower; DatasheetVersion: Sep-2008; PackageVersion: revA, May-2004; PackageReference: SQF48A; PackageDescription: LLP, Quad, 6 x 6 x 0.8mm Body, 48 Lead, 0.4mm Pitch, 4.6 x 4.6mm Exposed Pad; RoHS: Y; PinCount: 48; High-Reliability: Y; ComponentLink1Description: Manufacturer URL; ComponentLink1URL: http://www.national.com/; ComponentLink2Description: LP3910 Datasheet; ComponentLink2URL: http://www.national.com/ds/LP/LP3910.pdf; ComponentLink3Description: LP3910 Web Page; ComponentLink3URL: http://www.national.com/pf/LP/LP3910.html; ComponentLink4Description: SQF48A Package Page; ComponentLink4URL: http://www.national.com/packaging/folders/sqf48a.html
footprint SQF48A (QFN, 49-Leads, Body 6x6mm, Pitch 0.4mm, Thermal Pad 4.6x4.6mm, NSC Recommended)
pins: 1 TS (in), 2 VBATT1 (power), 3 AGND (power), 4 VREFH, 5 LDO2EN (in), 6 VLDO2 (power), 7 VIN1 (power), 8 VLDO1 (power), 9 POWERACK (in), 10 I SEN, 11 ADC2 (in), 12 ADC1 (in), 13 ~{IRQB} (oc), 14 ~{NRST} (oc), 15 CHG (out), 16 STAT (out), 17 BUCK1EN (in), 18 VFB1 (in), 19 BCKGND1 (power), 20 VBUCK1 (power), 21 VIN2 (power), 22 VIN3 (power), 23 VBUCK2 (power), 24 BCKGND2 (power), 25 VFB2 (in), 26 ON/~{OFF} (in), 27 I2C_SCL (in), 28 VDDIO (power), 29 I2C_SDA (io), 30 ONSTAT (oc), 31 VBBFB (in), 32 VBBOUT (power), 33 VBBL2, 34 BBGND1 (power), 35 VBBL1, 36 VIN4 (power), 37 USBSUSP (in), 38 USBISEL (in), 39 BBGND2 (power), 40 DGND (power), 41 VDD3 (power), 42 VDD2 (power), 43 VBATT3 (power), 44 VBATT2 (power), 45 USBPWR (power), 46 VDD1 (power), 47 CHG_DET (power), 48 I REF, 49 Thermal Pad (power)

## LP3913SQ-AA
designator U?
Power Management IC for Flash Memory Based Portable Media Players, 48-pin LLP; PartNumber: LP3913SQ-AA; Manufacturer: National Semiconductor; PackageTopMarking: NS*UZXYTT*L3913-AA; PowerWise: Y; CompType: MiscPower; DatasheetVersion: Sep-2008; PackageVersion: revA, May-2004; PackageReference: SQF48A; PackageDescription: LLP, Quad, 6 x 6 x 0.8mm Body, 48 Lead, 0.4mm Pitch, 4.6 x 4.6mm Exposed Pad; RoHS: Y; PinCount: 48; High-Reliability: Y; ComponentLink1Description: Manufacturer URL; ComponentLink1URL: http://www.national.com/; ComponentLink2Description: LP3913 Datasheet; ComponentLink2URL: http://www.national.com/ds/LP/LP3913.pdf; ComponentLink3Description: LP3913 Web Page; ComponentLink3URL: http://www.national.com/pf/LP/LP3913.html; ComponentLink4Description: SQF48A Package Page; ComponentLink4URL: http://www.national.com/packaging/folders/sqf48a.html
footprint SQF48A (QFN, 49-Leads, Body 6x6mm, Pitch 0.4mm, Thermal Pad 4.6x4.6mm, NSC Recommended)
pins: 1 TS (in), 2 VBATT1 (power), 3 AGND (power), 4 VREFH, 5 LDO2EN (in), 6 VLDO2 (power), 7 VIN1 (power), 8 VLDO1 (power), 9 POWERACK (in), 10 I SEN, 11 ADC2 (in), 12 ADC1 (in), 13 ~{IRQB} (oc), 14 ~{NRST} (oc), 15 CHG (out), 16 STAT (out), 17 BUCK1EN (in), 18 VFB1 (in), 19 BCKGND1 (power), 20 VBUCK1 (power), 21 VIN2 (power), 22 VIN3 (power), 23 VBUCK2 (power), 24 BCKGND2 (power), 25 VFB2 (in), 26 ON/~{OFF} (in), 27 I2C_SCL (in), 28 VDDIO (power), 29 I2C_SDA (io), 30 ONSTAT (oc), 31 VFB3 (in), 32 VBUCK3 (power), 33 VBUCK3L2, 34 BUCK3GND1 (power), 35 VBUCK3L1, 36 VIN4 (power), 37 USBSUSP (in), 38 USBISEL (in), 39 BUCK3GND2 (power), 40 DGND (power), 41 VDD3 (power), 42 VDD2 (power), 43 VBATT3 (power), 44 VBATT2 (power), 45 USBPWR (power), 46 VDD1 (power), 47 CHG_DET (power), 48 I REF, 49 Thermal Pad (power)

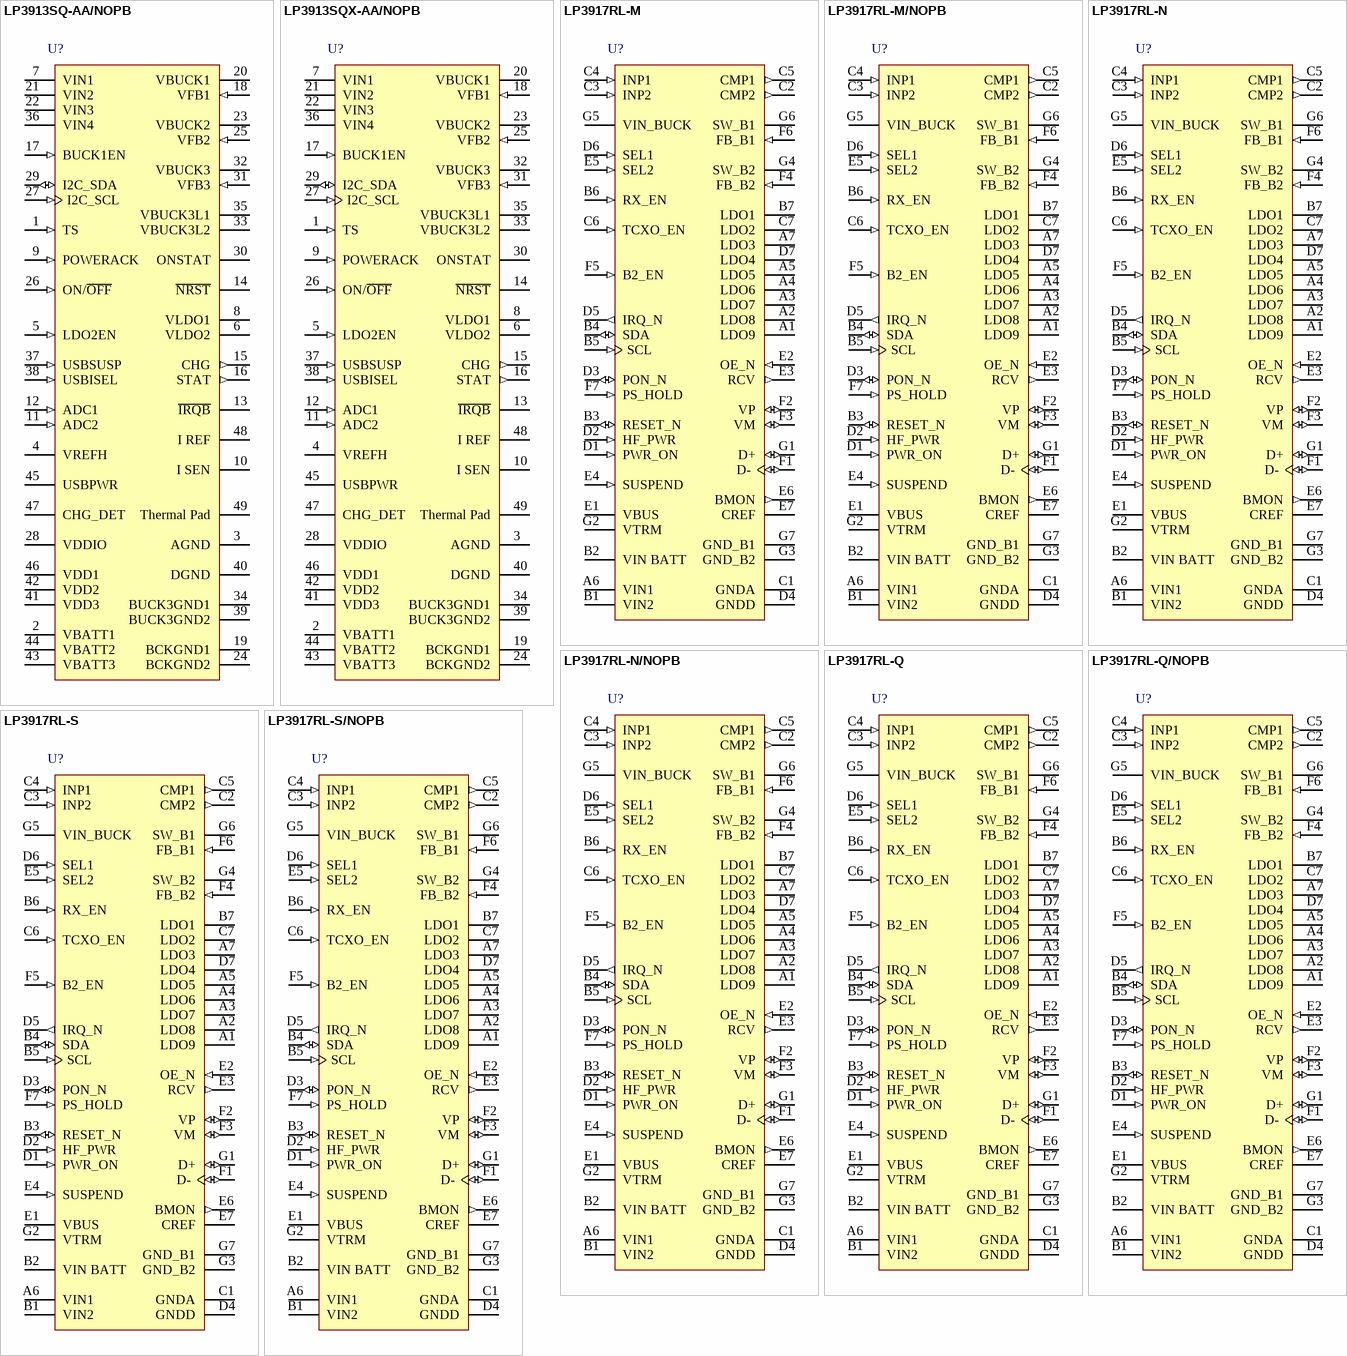
[diagram p41: symbols LP3913SQ-AA/NOPB to LP3917RL-S/NOPB]

## LP3913SQ-AA/NOPB
designator U?
Power Management IC for Flash Memory Based Portable Media Players, 48-pin LLP, Pb-Free; PartNumber: LP3913SQ-AA/NOPB; Manufacturer: National Semiconductor; PackageTopMarking: NS*UZXYTTE#*L3913-AA; PowerWise: Y; CompType: MiscPower; DatasheetVersion: Sep-2008; PackageVersion: revA, May-2004; PackageReference: SQF48A; PackageDescription: LLP, Quad, 6 x 6 x 0.8mm Body, 48 Lead, 0.4mm Pitch, 4.6 x 4.6mm Exposed Pad; RoHS: Y; PinCount: 48; High-Reliability: Y; ComponentLink1Description: Manufacturer URL; ComponentLink1URL: http://www.national.com/; ComponentLink2Description: LP3913 Datasheet; ComponentLink2URL: http://www.national.com/ds/LP/LP3913.pdf; ComponentLink3Description: LP3913 Web Page; ComponentLink3URL: http://www.national.com/pf/LP/LP3913.html; ComponentLink4Description: SQF48A Package Page; ComponentLink4URL: http://www.national.com/packaging/folders/sqf48a.html
footprint SQF48A (QFN, 49-Leads, Body 6x6mm, Pitch 0.4mm, Thermal Pad 4.6x4.6mm, NSC Recommended)
pins: 1 TS (in), 2 VBATT1 (power), 3 AGND (power), 4 VREFH, 5 LDO2EN (in), 6 VLDO2 (power), 7 VIN1 (power), 8 VLDO1 (power), 9 POWERACK (in), 10 I SEN, 11 ADC2 (in), 12 ADC1 (in), 13 ~{IRQB} (oc), 14 ~{NRST} (oc), 15 CHG (out), 16 STAT (out), 17 BUCK1EN (in), 18 VFB1 (in), 19 BCKGND1 (power), 20 VBUCK1 (power), 21 VIN2 (power), 22 VIN3 (power), 23 VBUCK2 (power), 24 BCKGND2 (power), 25 VFB2 (in), 26 ON/~{OFF} (in), 27 I2C_SCL (in), 28 VDDIO (power), 29 I2C_SDA (io), 30 ONSTAT (oc), 31 VFB3 (in), 32 VBUCK3 (power), 33 VBUCK3L2, 34 BUCK3GND1 (power), 35 VBUCK3L1, 36 VIN4 (power), 37 USBSUSP (in), 38 USBISEL (in), 39 BUCK3GND2 (power), 40 DGND (power), 41 VDD3 (power), 42 VDD2 (power), 43 VBATT3 (power), 44 VBATT2 (power), 45 USBPWR (power), 46 VDD1 (power), 47 CHG_DET (power), 48 I REF, 49 Thermal Pad (power)

## LP3913SQX-AA/NOPB
designator U?
Power Management IC for Flash Memory Based Portable Media Players, 48-pin LLP, Pb-Free; PartNumber: LP3913SQX-AA/NOPB; Manufacturer: National Semiconductor; PackageTopMarking: NS*UZXYTTE#*L3913-AA; PowerWise: Y; CompType: MiscPower; DatasheetVersion: Sep-2008; PackageVersion: revA, May-2004; PackageReference: SQF48A; PackageDescription: LLP, Quad, 6 x 6 x 0.8mm Body, 48 Lead, 0.4mm Pitch, 4.6 x 4.6mm Exposed Pad; RoHS: Y; PinCount: 48; High-Reliability: Y; ComponentLink1Description: Manufacturer URL; ComponentLink1URL: http://www.national.com/; ComponentLink2Description: LP3913 Datasheet; ComponentLink2URL: http://www.national.com/ds/LP/LP3913.pdf; ComponentLink3Description: LP3913 Web Page; ComponentLink3URL: http://www.national.com/pf/LP/LP3913.html; ComponentLink4Description: SQF48A Package Page; ComponentLink4URL: http://www.national.com/packaging/folders/sqf48a.html
footprint SQF48A (QFN, 49-Leads, Body 6x6mm, Pitch 0.4mm, Thermal Pad 4.6x4.6mm, NSC Recommended)
pins: 1 TS (in), 2 VBATT1 (power), 3 AGND (power), 4 VREFH, 5 LDO2EN (in), 6 VLDO2 (power), 7 VIN1 (power), 8 VLDO1 (power), 9 POWERACK (in), 10 I SEN, 11 ADC2 (in), 12 ADC1 (in), 13 ~{IRQB} (oc), 14 ~{NRST} (oc), 15 CHG (out), 16 STAT (out), 17 BUCK1EN (in), 18 VFB1 (in), 19 BCKGND1 (power), 20 VBUCK1 (power), 21 VIN2 (power), 22 VIN3 (power), 23 VBUCK2 (power), 24 BCKGND2 (power), 25 VFB2 (in), 26 ON/~{OFF} (in), 27 I2C_SCL (in), 28 VDDIO (power), 29 I2C_SDA (io), 30 ONSTAT (oc), 31 VFB3 (in), 32 VBUCK3 (power), 33 VBUCK3L2, 34 BUCK3GND1 (power), 35 VBUCK3L1, 36 VIN4 (power), 37 USBSUSP (in), 38 USBISEL (in), 39 BUCK3GND2 (power), 40 DGND (power), 41 VDD3 (power), 42 VDD2 (power), 43 VBATT3 (power), 44 VBATT2 (power), 45 USBPWR (power), 46 VDD1 (power), 47 CHG_DET (power), 48 I REF, 49 Thermal Pad (power)

## LP3917RL-M
designator U?
CDMA Cellular Phone Power Management Unit, 49-pin Micro SMDXT; PartNumber: LP3917RL-M; Manufacturer: National Semiconductor; PackageTopMarking: XYTT*I V05; PowerWise: N; CompType: MiscPower; High-Reliability: Y; DatasheetVersion: Dec-2006; PackageVersion: revB, Dec-2005; PackageReference: RLA49AAA; PackageDescription: Micro SMDxt, 49 Bump (Large), 0.5mm Pitch; RoHS: Y; PinCount: 49; ComponentLink1Description: Manufacturer URL; ComponentLink1URL: http://www.national.com/; ComponentLink2Description: LP3917 Datasheet; ComponentLink2URL: http://www.national.com/ds/LP/LP3917.pdf; ComponentLink3Description: LP3917 Web Page; ComponentLink3URL: http://www.national.com/pf/LP/LP3917.html; ComponentLink4Description: RLA49AAA Package Page; ComponentLink4URL: http://www.national.com/packaging/folders/rla49aaa.html
footprint RLA49AAA (Micro SMD, 49-Leads, Body 3.47x3.47mm, Pitch 0.5mm, NSC Recommended)
pins: A1 LDO9 (power), A2 LDO8 (power), A3 LDO7 (power), A4 LDO6 (power), A5 LDO5 (power), A6 VIN1 (power), A7 LDO3 (power), B1 VIN2 (power), B2 VIN BATT (power), B3 RESET_N (io), B4 SDA (io), B5 SCL (in), B6 RX_EN (in), B7 LDO1 (power), C1 GNDA (power), C2 CMP2 (out), C3 INP2 (in), C4 INP1 (in), C5 CMP1 (out), C6 TCXO_EN (in), C7 LDO2 (power), D1 PWR_ON (in), D2 HF_PWR (in), D3 PON_N (io), D4 GNDD (power), D5 IRQ_N (out), D6 SEL1 (in), D7 LDO4 (power), E1 VBUS (power), E2 OE_N (in), E3 RCV (out), E4 SUSPEND (in), E5 SEL2 (in), E6 BMON (out), E7 CREF, F1 D- (io), F2 VP (io), F3 VM (io), F4 FB_B2 (in), F5 B2_EN (in), F6 FB_B1 (in), F7 PS_HOLD (in), G1 D+ (io), G2 VTRM (power), G3 GND_B2 (power), G4 SW_B2 (power), G5 VIN_BUCK (power), G6 SW_B1 (power), G7 GND_B1 (power)